# EAGLE library part 61900819521 (library Wire-to-Board (rev18a))
WR-WTB 2.54mm Right Angled Locking Header Top Locking, 8 Pins=>Code : Con_WTB_2.54_PCB_THT_61900819521 <http://katalog.we-online.de/media/thumbs2/eican/thb_Con_WTB_2.54_PCB_THT_6190xx19521_pf2.jpg> Details see: http://katalog.we-online.de/en/em/WTB_2_54_MALE_RIGHT_ANGLED_TOP_LOCKING_6190XX19521 Created 2014-06-05, Karrer Zheng 2014 (C) Würth Elektronik
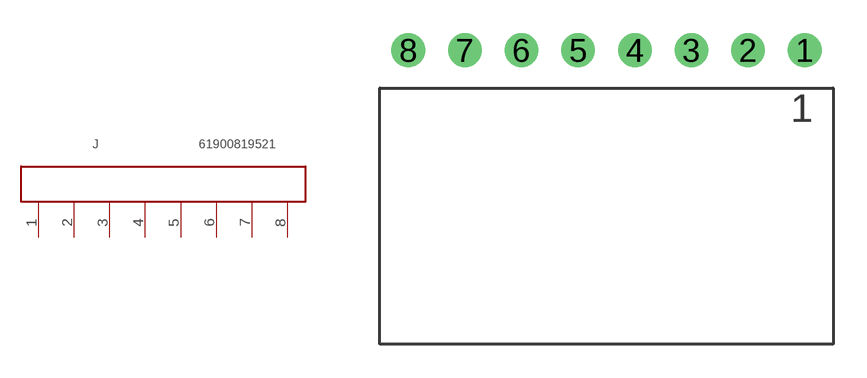
[diagram p11: symbol with the pads of 61900819521; footprint 61900819521]

Designator prefix J

## 61900819521  [61900819521]
1  8  pas
2  7  pas
3  6  pas
4  5  pas
5  4  pas
6  3  pas
7  2  pas
8  1  pas

## Footprint 61900819521 (pad centres in mm)
WR-WTB 2.54mm Right Angled Locking Header Top Locking, 8 Pins
drill 1: 1 8.89,0; 2 6.35,0; 3 3.81,0; 4 1.27,0; 5 -1.27,0; 6 -3.81,0; 7 -6.35,0; 8 -8.89,0